# Altium footprint library SOIC-8 EDP.PcbLib: 1 footprints
Each footprint in its own frame and in the unit in brackets; x right, y up, seen from the top. Pads: shape width x height; smd on the part's side, far side on the other; paste and mask are expansions set on the pad; w line width, h text height; cw(c..) or ccw(c..) is an arc to the next point about the centre after c.
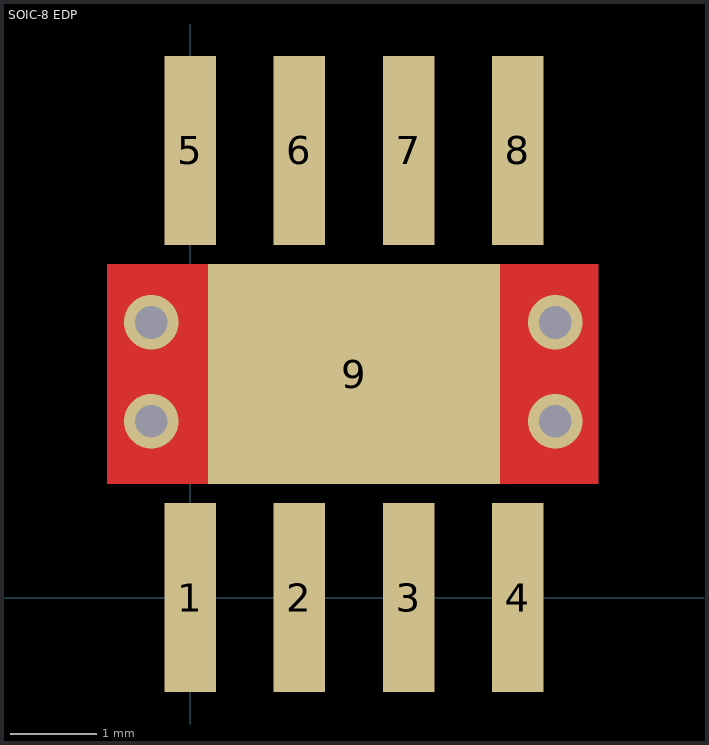
[diagram p0: the footprint, top view; thin cyan lines are the x and y axes]

## SOIC-8 EDP [mm] "8-pin SOIC w/ exposed thermal pad"
pads (9):
  rect 0.6x2.2 smd: 1(0,0) 2(1.27,0) 3(2.54,0) 4(3.81,0) 5(0,5.2) 6(1.27,5.2) 7(2.54,5.2) 8(3.81,5.2)
  rect 3.4x2.56 smd: 9(1.905,2.6)
via -0.453,3.2 diameter 0.635 hole 0.381
via -0.453,2.051 diameter 0.635 hole 0.381
via 4.246,2.051 diameter 0.635 hole 0.381
via 4.246,3.2 diameter 0.635 hole 0.381
Top Layer:
  rectangle: 3.353,1.32 4.75,3.88
  rectangle: -0.965,1.32 0.33,3.88